# Altium schematic symbol library chipcard-siemens.SCHLIB: 3 symbols
Pins are listed as number, name and electrical type; pins without a type are passive.

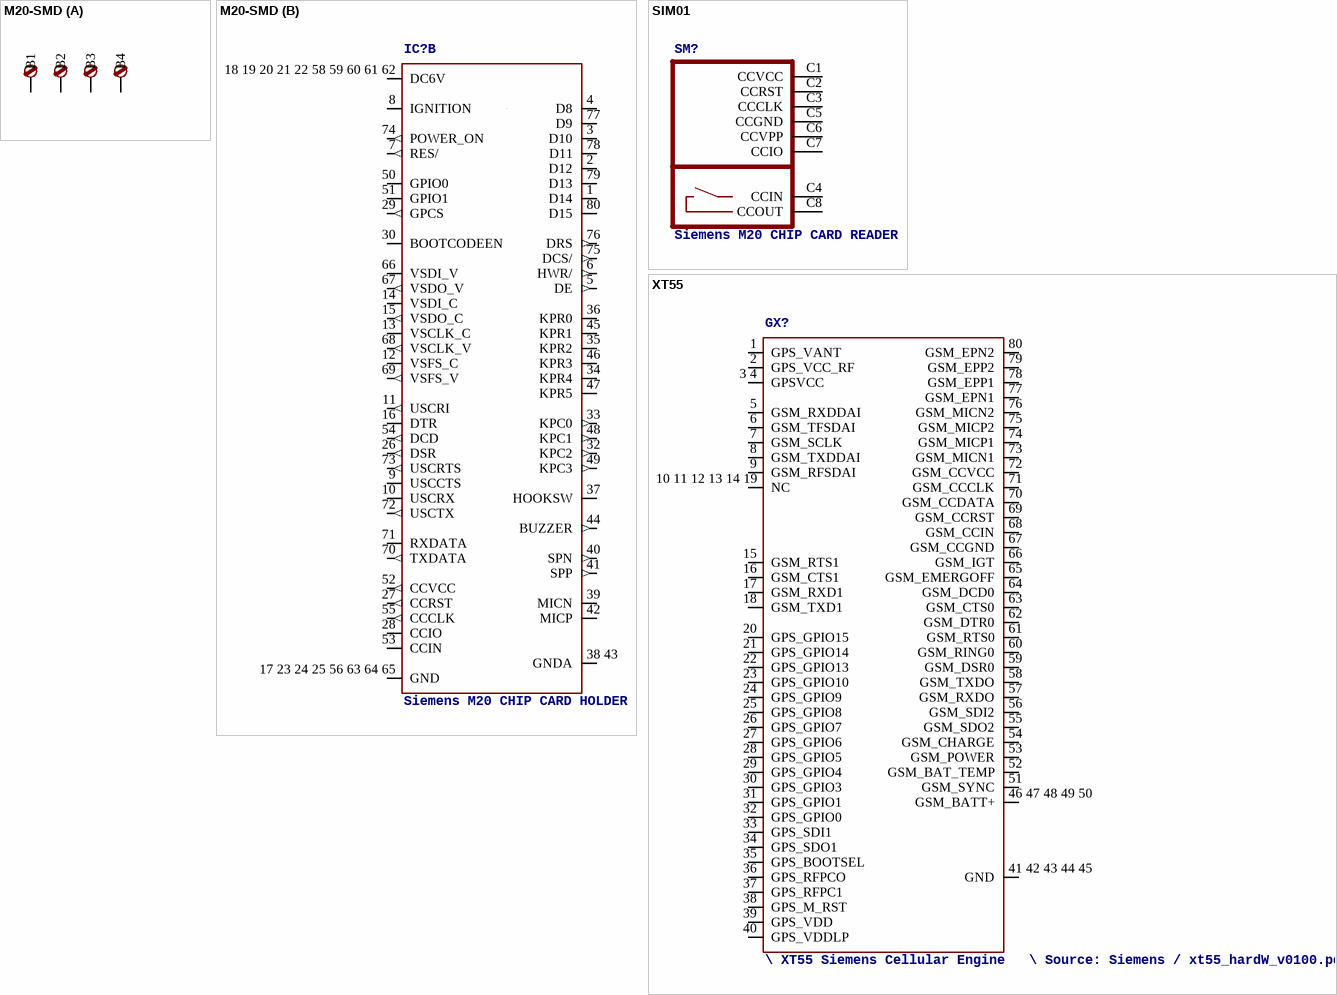
[diagram p0: symbols M20-SMD to XT55]

## M20-SMD
designator IC?, comment Siemens M20 CHIP CARD HOLDER
OC_FARNELL: unknown; OC_NEWARK: unknown
footprint M20-SMD
part A pins: B1, B2, B3, PB4 B4
part B pins: 1 D14, 2 D12, 3 D10, 4 D8, 5 DE (out), 6 HWR/ (out), 7 RES/ (out), 8 IGNITION, 9 USCCTS, 10 USCRX, 11 USCRI (out), 12 VSFS_C, 13 VSCLK_C, 14 VSDI_C, 15 VSDO_C (out), 16 DTR, 17 23 24 25 56 63 64 65 GND (power), 18 19 20 21 22 58 59 60 61 62 DC6V (power), 26 DSR (out), 27 CCRST (out), 28 CCIO, 29 GPCS (out), 30 BOOTCODEEN, 31 NC, 32 KPC2 (out), 33 KPC0 (out), 34 KPR4, 35 KPR2, 36 KPR0, 37 HOOKSW, 38 43 GNDA (power), 39 MICN, 40 SPN (out), 41 SPP (out), 42 MICP, 44 BUZZER (out), 45 KPR1, 46 KPR3, 47 KPR5, 48 KPC1 (out), 49 KPC3 (out), 50 GPIO0, 51 GPIO1, 52 CCVCC (out), 53 CCIN, 54 DCD (out), 55 CCCLK (out), 66 VSDI_V, 67 VSDO_V (out), 68 VSCLK_V (out), 69 VSFS_V (out), 70 TXDATA (out), 71 RXDATA, 72 USCTX (out), 73 USCRTS (out), 74 POWER_ON (out), 75 DCS/ (out), 76 DRS (out), 77 D9, 78 D11, 79 D13, 80 D15

## SIM01
designator SM?, comment Siemens M20 CHIP CARD READER
OC_FARNELL: unknown; OC_NEWARK: unknown
footprint SIM-M20
pins: C1 CCVCC, C2 CCRST, C3 CCCLK, C4 CCIN, C5 CCGND, C6 CCVPP, C7 CCIO, C8 CCOUT

## XT55
designator GX?, comment \ XT55 Siemens Cellular Engine   \ Source: Siemens / xt55_hardW_v0100.pdf
OC_FARNELL: unknown; OC_NEWARK: unknown
footprint XT55
pins: 1 GPS_VANT, 2 GPS_VCC_RF, 3 4 GPSVCC, 5 GSM_RXDDAI, 6 GSM_TFSDAI, 7 GSM_SCLK, 8 GSM_TXDDAI, 9 GSM_RFSDAI, 10 11 12 13 14 19 NC, 15 GSM_RTS1, 16 GSM_CTS1, 17 GSM_RXD1, 18 GSM_TXD1, 20 GPS_GPIO15, 21 GPS_GPIO14, 22 GPS_GPIO13, 23 GPS_GPIO10, 24 GPS_GPIO9, 25 GPS_GPIO8, 26 GPS_GPIO7, 27 GPS_GPIO6, 28 GPS_GPIO5, 29 GPS_GPIO4, 30 GPS_GPIO3, 31 GPS_GPIO1, 32 GPS_GPIO0, 33 GPS_SDI1, 34 GPS_SDO1, 35 GPS_BOOTSEL, 36 GPS_RFPCO, 37 GPS_RFPC1, 38 GPS_M_RST, 39 GPS_VDD, 40 GPS_VDDLP, 41 42 43 44 45 GND, 46 47 48 49 50 GSM_BATT+, 51 GSM_SYNC, 52 GSM_BAT_TEMP, 53 GSM_POWER, 54 GSM_CHARGE, 55 GSM_SDO2, 56 GSM_SDI2, 57 GSM_RXDO, 58 GSM_TXDO, 59 GSM_DSR0, 60 GSM_RING0, 61 GSM_RTS0, 62 GSM_DTR0, 63 GSM_CTS0, 64 GSM_DCD0, 65 GSM_EMERGOFF, 66 GSM_IGT, 67 GSM_CCGND, 68 GSM_CCIN, 69 GSM_CCRST, 70 GSM_CCDATA, 71 GSM_CCCLK, 72 GSM_CCVCC, 73 GSM_MICN1, 74 GSM_MICP1, 75 GSM_MICP2, 76 GSM_MICN2, 77 GSM_EPN1, 78 GSM_EPP1, 79 GSM_EPP2, 80 GSM_EPN2